# EAGLE library part CON07 (library Connectors)
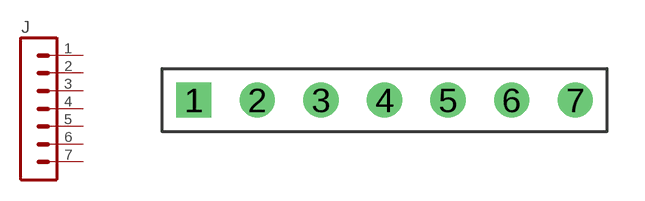
[diagram p5: symbol with the pads of CON07_PTH; footprint CON07_PTH]

Designator prefix J

## CON07PTH  [CON07_PTH]
1  1  pas
2  2  pas
3  3  pas
4  4  pas
5  5  pas
6  6  pas
7  7  pas

## Footprint CON07_PTH (pad centres in mm)
drill 0.9 square: 1 -6.35,0
drill 0.9: 2 -3.81,0; 3 -1.27,0; 4 1.27,0; 5 3.81,0; 6 6.35,0; 7 8.89,0